# Altium footprint library PQFP-32.PcbLib: 1 footprints
Each footprint in its own frame and in the unit in brackets; x right, y up, seen from the top. Pads: shape width x height; smd on the part's side, far side on the other; paste and mask are expansions set on the pad; w line width, h text height; cw(c..) or ccw(c..) is an arc to the next point about the centre after c.
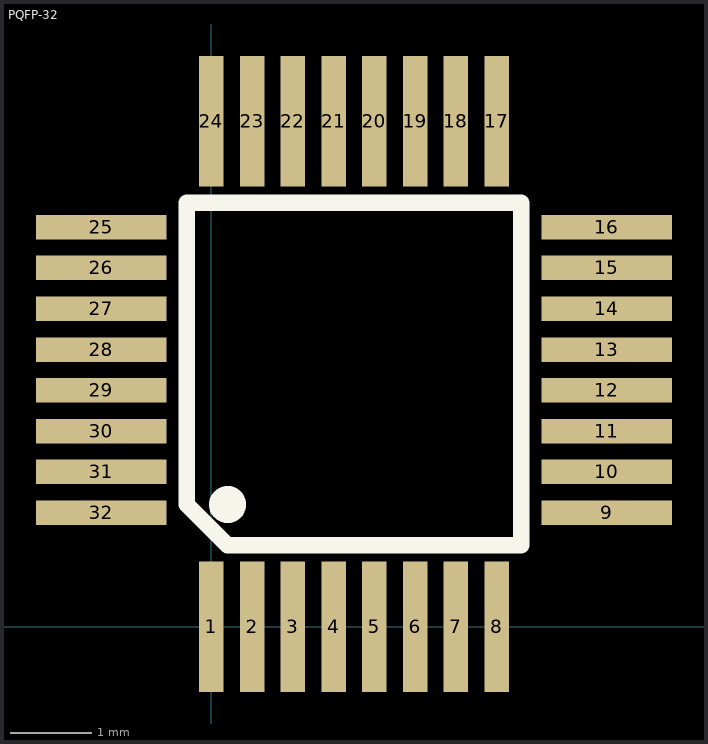
[diagram p0: the footprint, top view; thin cyan lines are the x and y axes]

## PQFP-32 [mm]
pads (32):
  rect 0.3x1.6 smd: 1(0,0) 2(0.5,0) 3(1,0) 4(1.5,0) 5(2,0) 6(2.5,0) 7(3,0) 8(3.5,0) 17(3.5,6.2) 18(3,6.2) 19(2.5,6.2) 20(2,6.2) 21(1.5,6.2) 22(1,6.2) 23(0.5,6.2) 24(0,6.2)
  rect 1.6x0.3 smd: 9(4.85,1.4) 10(4.85,1.9) 11(4.85,2.4) 12(4.85,2.9) 13(4.85,3.4) 14(4.85,3.9) 15(4.85,4.4) 16(4.85,4.9) 25(-1.35,4.9) 26(-1.35,4.4) 27(-1.35,3.9) 28(-1.35,3.4) 29(-1.35,2.9) 30(-1.35,2.4) 31(-1.35,1.9) 32(-1.35,1.4)
Top Overlay:
  circle w0.254: c0.2,1.5 r0.1
  lines w0.2: -0.3,1.5 0.2,1 3.8,1 3.8,5.2 -0.3,5.2 -0.3,1.5